# Altium footprint library SPARKFUN_PRT-14417.PcbLib: 1 footprints
Each footprint in its own frame and in the unit in brackets; x right, y up, seen from the top. Pads: shape width x height; smd on the part's side, far side on the other; paste and mask are expansions set on the pad; w line width, h text height; cw(c..) or ccw(c..) is an arc to the next point about the centre after c.
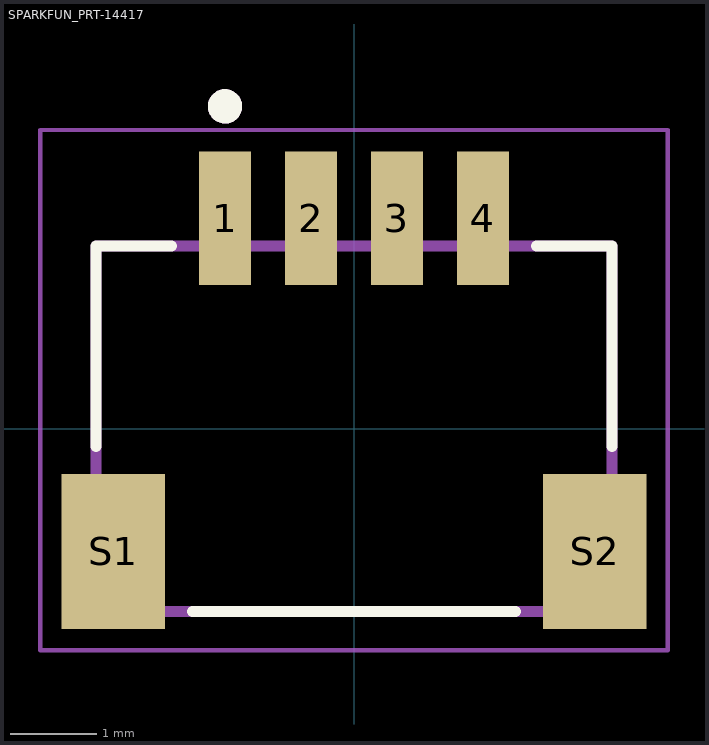
[diagram p0: the footprint, top view; thin cyan lines are the x and y axes]

## SPARKFUN_PRT-14417 [mm]
height 2.9
pads (6):
  rect 0.6x1.55 smd: 1(-1.5,2.45) 2(-0.5,2.45) 3(0.5,2.45) 4(1.5,2.45)
  rect 1.2x1.8 smd: S1(-2.8,-1.425) S2(2.8,-1.425)
Top Overlay:
  circle w0.2: c-1.5,3.75 r0.1
  lines w0.127: -3,-0.205 -3,2.125 -2.12,2.125 ; -1.88,-2.125 1.88,-2.125 ; 2.12,2.125 3,2.125 3,-0.205
Mechanical 13:
  circle w0.2: c-1.5,3.75 r0.1
  lines w0.127: -3,-2.125 3,-2.125 3,2.125 -3,2.125 -3,-2.125
Mechanical 15:
  lines w0.05: -3.65,-2.575 -3.65,3.475 3.65,3.475 3.65,-2.575 -3.65,-2.575
3D body "step_temp.STEP": height 3.25, standoff 0.3, extent -3,-3.895 3,1.055